# EAGLE library part LT3009 (library harrison)
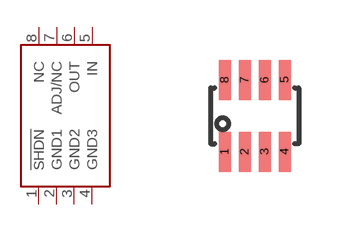
[diagram p43: symbol with the pads of SC70-8; footprint SC70-8]

Designator prefix U

## LT3009  [SC70-8]
1  !SHDN!  in
2  GND1  pwr
3  GND2  pwr
4  GND3  pwr
5  IN  pwr
6  OUT  pwr
7  ADJ/NC  pas
8  NC  nc

## Footprint SC70-8 (pad centres in mm)
smd 0.3 x 1: 1 -0.75,-0.9; 2 -0.25,-0.9; 3 0.25,-0.9; 4 0.75,-0.9; 5 0.75,0.9; 6 0.25,0.9; 7 -0.25,0.9; 8 -0.75,0.9